# Altium schematic symbol library aiskylab-10Sensors-x.SchLib: 2 symbols
Pins are listed as number, name and electrical type; pins without a type are passive.

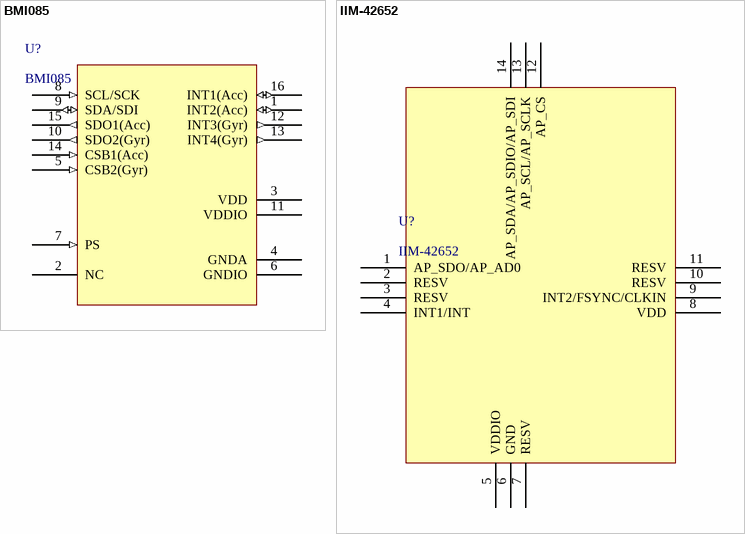
[diagram p0: symbols BMI085 to IIM-42652]

## BMI085
designator U?
ACCELEROMETER 2-8G; Manufacturer: Bosch Sensortec; Axis: X, Y, Z; Supplier 1: Digi-Key; Manufacturer Part Number: BMI085; RoHS: No; Category: Inertial Measurement Units (IMUs); Pricing 1: 1=7.68000, 5=6.77200, 10=5.98200, 25=4.85360, 50=4.28920, 100=4.17640 (USD); Mount: Surface Mount; Number of Pins: 16; Min Operating Temperature: -40°C; Max Operating Temperature: 85°C; Packaging: Tape and Reel; ComponentLink1URL: https://ae-bst.resource.bosch.com/media/_tech/media/product_flyer/BST-BMI085-FL000.pdf?src-supplier=Digi-Key; ComponentLink1Description: https://ae-bst.resource.bosch.com/media/_tech/media/product_flyer/BST-BMI085-FL000.pdf?src-supplier=Digi-Key; Supplier Part Number 1: 828-1083-1-ND
footprint LGA16C50P4X4_450X300X95 (LGA, 16-Leads, Body 4.50x3.00mmx0.95mm, Pitch 0.50mm)
pins: 1 INT2(Acc) (io), 2 NC, 3 VDD (power), 4 GNDA (power), 5 CSB2(Gyr) (in), 6 GNDIO (power), 7 PS (in), 8 SCL/SCK (in), 9 SDA/SDI (io), 10 SDO2(Gyr) (out), 11 VDDIO (power), 12 INT3(Gyr) (out), 13 INT4(Gyr) (out), 14 CSB1(Acc) (in), 15 SDO1(Acc) (out), 16 INT1(Acc) (io)

## IIM-42652
designator U?
ACCELEROMETER 2-8G; Manufacturer: TDK; Supplier 1: Digi-Key; Manufacturer Part Number: IIM-42652; RoHS: No; Stock 1: 8132; Pricing 1: 1=13.28000, 5=8.62400, 10=7.76200, 25=6.90000, 50=6.38240, 100=5.52000, 500=5.17500, 1000=4.83000 (USD); Supplier Part Number 1: 1428-IIM-42652CT-ND; ComponentLink1Description: Datasheet; ComponentLink1URL: https://3cfeqx1hf82y3xcoull08ihx-wpengine.netdna-ssl.com/wp-content/uploads/2021/01/DS-000440-IIM-42652-v1.0.pdf
footprint LGA14C50P4X4_300X250X91 (LGA, 14-Leads, Body 3.00x2.50mmx0.91mm, Pitch 0.50mm)
pins: 1 AP_SDO/AP_AD0, 2 RESV, 3 RESV, 4 INT1/INT, 5 VDDIO, 6 GND, 7 RESV, 8 VDD, 9 INT2/FSYNC/CLKIN, 10 RESV, 11 RESV, 12 AP_CS, 13 AP_SCL/AP_SCLK, 14 AP_SDA/AP_SDIO/AP_SDI